# Altium footprint library 3U16AD_PCB_1214D_Allegro.PcbLib: 54 footprints (part 4 of 4)
Each footprint in its own frame and in the unit in brackets; x right, y up, seen from the top. Pads: shape width x height; smd on the part's side, far side on the other; paste and mask are expansions set on the pad; w line width, h text height; cw(c..) or ccw(c..) is an arc to the next point about the centre after c.
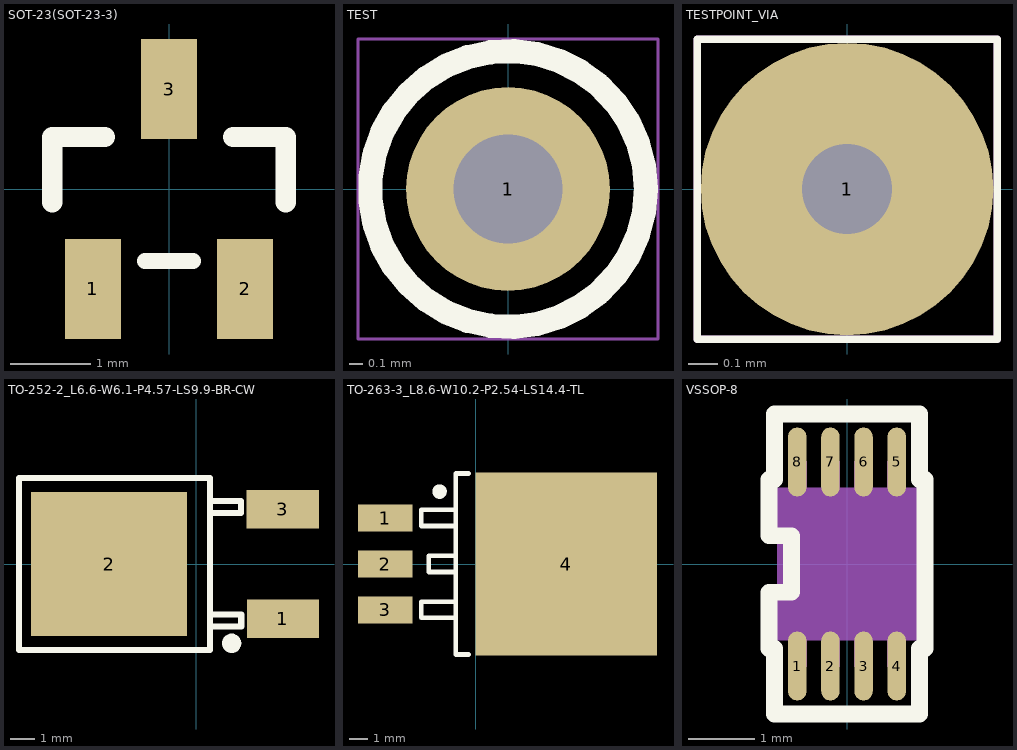
[diagram p3: the footprints below, top view; thin cyan lines are the x and y axes]

## SOT-23(SOT-23-3) [mm]
pads (3):
  rect 0.7x1.25 smd: 1(-0.95,-1.25) 2(0.95,-1.25) 3(0,1.25)
Top Overlay:
  lines w0.2: -0.3,-0.9 0.3,-0.9
  lines w0.254: -1.46,-0.165 -1.46,0.65 -0.8,0.65 ; 1.46,-0.165 1.46,0.65 ; 0.8,0.65 1.46,0.65 ; 0.8,0.65 1.46,0.65 ; 0.8,0.65 1.46,0.65

## TEST [mil] "TEST"
pads (1):
  round 59.06 hole 31.5: 1(0,0)
Top Overlay:
  circle w7: c0,0 r40
  text ".Designator" at -22,-61.32 h30
Mechanical 7:
  lines w1: -43.5,-43.5 43.5,-43.5 43.5,43.5 -43.5,43.5 -43.5,-43.5

## TESTPOINT_VIA [mil] "TESTPOINT_VIA"
pads (1):
  round 39 / inner round 20 / far side round 39 hole 12: 1(0,0)
Top Overlay:
  lines w1: -20,-20 -20,20 20,20 20,-20 -20,-20
  text ".Designator" at -73,-47 h30
Mechanical 7:
  lines w1: -20,-20 -20,20 20,20 20,-20 -20,-20

## TO-252-2_L6.6-W6.1-P4.57-LS9.9-BR-CW [mm]
pads (3):
  rect 3x1.6 smd: 1(3.617,-2.285)
  rect 6.5x5.999 smd: 2(-3.617,0)
  rect 3.002x1.6 smd: 3(3.611,2.285)
Top Overlay:
  lines w0.254: 0.578,2.122 1.878,2.122 1.878,2.623 0.578,2.623 ; 0.582,-2.6 1.882,-2.6 1.882,-2.1 0.582,-2.1 ; -7.368,-3.573 0.582,-3.573 0.582,3.573 -7.368,3.573 -7.368,-3.573
  lines w0.4: 1.482,-3.099 ccw(c1.483,-3.299) 1.485,-3.099

## TO-263-3_L8.6-W10.2-P2.54-LS14.4-TL [mil]
pads (4):
  rect 118.5x59.5 smd: 1(-197,100) 2(-197,0) 3(-197,-100)
  rect 394.5x398.5 smd: 4(197,0)
Top Overlay:
  lines w10: -43.5,-117.3 -118.3,-117.3 -118.3,-81.9 -43.5,-81.9 ; -43.5,-17.3 -102.5,-17.3 -102.5,18.1 -43.5,18.1 ; -43.5,82.7 -118.3,82.7 -118.3,118.1 -43.5,118.1 ; -15.9,-196.9 -43.5,-196.9 -43.5,196.9 -15.9,196.9
  lines w15.7: -78.9,165.4 ccw(c-78.85,157.5) -78.8,165.4

## VSSOP-8 [mil] "VSSOP-8"
pads (8):
  oval 11x41 smd: 1(-29.53,-60.61) 2(-9.84,-60.61) 3(9.84,-60.61) 4(29.53,-60.61) 5(29.53,60.61) 6(9.84,60.61) 7(-9.84,60.61) 8(-29.53,60.61)
Top Overlay:
  lines w10: -46.34,-50.28 -46.34,-16.76 -32.93,-16.76 -32.93,16.76 -46.34,16.76 -46.34,50.28 -43.03,50.28 -43.03,89.11 43.03,89.11 43.03,50.28 46.34,50.28 46.34,-50.28 43.03,-50.28 43.03,-89.11 -43.03,-89.11 -43.03,-50.28 -46.34,-50.28
  text ".Designator" at -87,-101 h30
Mechanical 7:
  region: -35.04,-61.03 -35.04,-45.28 -41.34,-45.28 -41.34,45.28 -35.04,45.28 -35.04,61.03 -24.02,61.03 -24.02,45.28 -15.35,45.28 -15.35,61.03 -4.33,61.03 -4.33,45.28 4.33,45.28 4.33,61.03 15.35,61.03 15.35,45.28 24.02,45.28 24.02,61.03 35.04,61.03 35.04,45.28 41.34,45.28 41.34,-45.28 35.04,-45.28 35.04,-61.03 24.02,-61.03 24.02,-45.28 15.35,-45.28 15.35,-61.03 4.33,-61.03 4.33,-45.28 -4.33,-45.28 -4.33,-61.03 -15.35,-61.03 -15.35,-45.28 -24.02,-45.28 -24.02,-61.03
Mechanical 17:
  text "2.3" at -375,370 h30
  text "90.55" at -475,319 h30
  text "2.1" at -520,195 h30
  text "82.68" at -571,95 h30
  text "19.69" at -581,-295 h30
  text "0.5" at -530,-195 h30
  text "82.68" at 95,-571 h30
  text "0.5" at -195,-530 h30
  text "19.69" at -295,-581 h30
3D body: height 150, standoff 0, extent -41.34,-61.03 41.34,61.03